# Altium footprint library Connector_PinSocket_1.27mm.PcbLib: 246 footprints (part 1 of 16)
Each footprint in its own frame and in the unit in brackets; x right, y up, seen from the top. Pads: shape width x height; smd on the part's side, far side on the other; paste and mask are expansions set on the pad; w line width, h text height; cw(c..) or ccw(c..) is an arc to the next point about the centre after c.
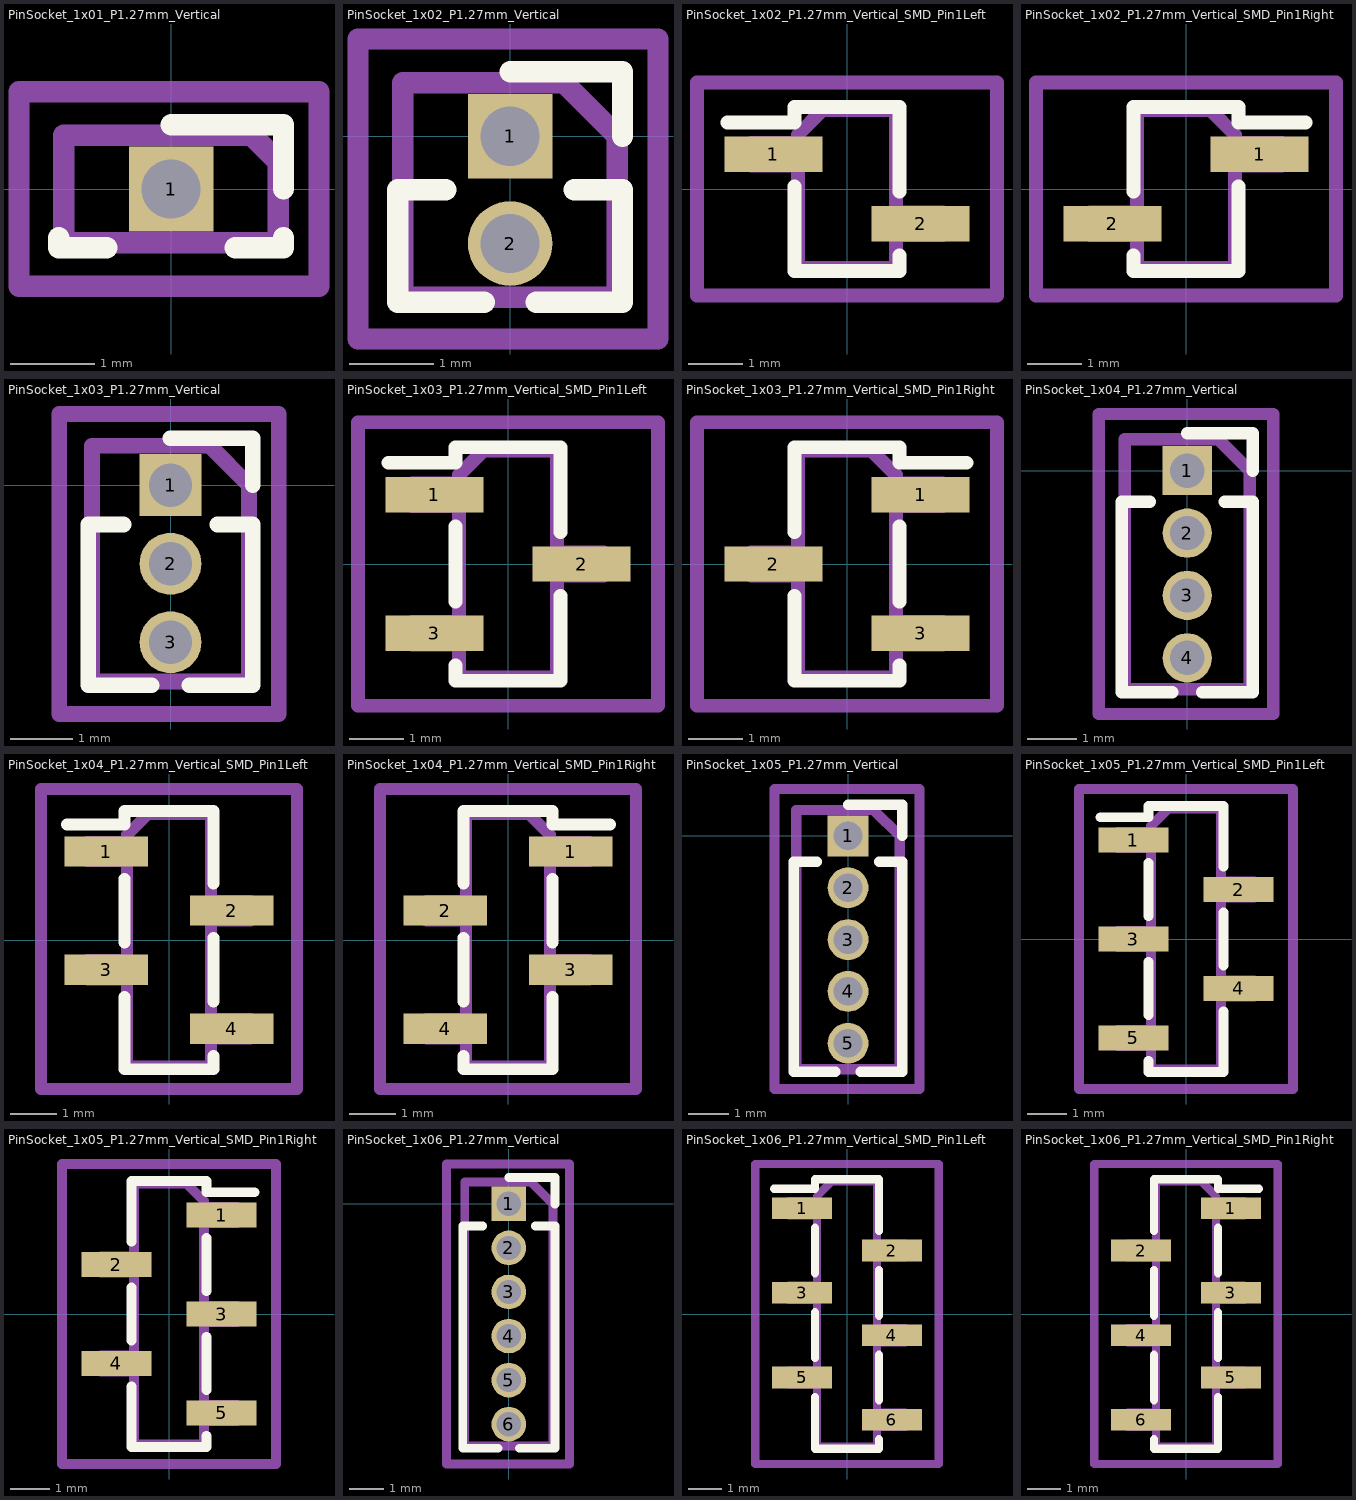
[diagram p0: the footprints below, top view; thin cyan lines are the x and y axes]

## PinSocket_1x01_P1.27mm_Vertical [mm]
pads (1):
  rect 1x1 hole 0.7: 1(0,0)
F.SilkS:
  lines w0.254: -1.33,-0.575 -1.33,-0.695 -0.76,-0.695 ; 0,0.76 1.33,0.76 1.33,0 ; 0.76,-0.695 1.33,-0.695 1.33,-0.575
Top Assembly:
  lines w0.254: -1.27,-0.635 -1.27,0.635 0.953,0.635 1.27,0.318 1.27,-0.635 -1.27,-0.635
  text "'.Designator'" at -3.072,-0.635 h0.76
Top Courtyard:
  lines w0.254: -1.8,-1.15 -1.8,1.15 1.75,1.15 1.75,-1.15 -1.8,-1.15
Top Designator:
  text ".Designator" at -7.728,-0.508 h1.52

## PinSocket_1x02_P1.27mm_Vertical [mm]
pads (2):
  rect 1x1 hole 0.7: 1(0,0)
  round 1 hole 0.7: 2(0,-1.27)
F.SilkS:
  lines w0.254: -0.76,-0.635 -1.33,-0.635 -1.33,-1.965 -0.308,-1.965 ; 0,0.76 1.33,0.76 1.33,0 ; 0.308,-1.965 1.33,-1.965 1.33,-0.635 0.76,-0.635
Top Assembly:
  lines w0.254: -1.27,-1.905 1.27,-1.905 1.27,0 0.635,0.635 -1.27,0.635 -1.27,-1.905
  text "'.Designator'" at 0.84,-4.682 h1
Top Courtyard:
  lines w0.254: -1.8,-2.4 1.75,-2.4 1.75,1.15 -1.8,1.15 -1.8,-2.4
Top Designator:
  text ".Designator" at -7.643,-1.293 h1.52

## PinSocket_1x02_P1.27mm_Vertical_SMD_Pin1Left [mm]
pads (2):
  rect 1.8x0.65 smd: 1(-1.35,0.635) 2(1.35,-0.635)
F.SilkS:
  lines w0.254: -2.19,1.22 -0.96,1.22 -0.96,1.505 0.96,1.505 0.96,-0.05 ; -0.96,0.05 -0.96,-1.505 0.96,-1.505 0.96,-1.22
Top Assembly:
  lines w0.254: -0.9,0.425 -1.75,0.425 -1.75,0.845 -0.9,0.845 ; 0.9,-0.845 1.75,-0.845 1.75,-0.425 0.9,-0.425 ; -0.9,-1.445 0.9,-1.445 0.9,1.445 -0.45,1.445 -0.9,0.995 -0.9,-1.445
  text "'.Designator'" at 0.84,-4.047 h1
Top Courtyard:
  lines w0.254: -2.75,-1.95 2.75,-1.95 2.75,1.95 -2.75,1.95 -2.75,-1.95
Top Designator:
  text ".Designator" at -7.618,-0.658 h1.52

## PinSocket_1x02_P1.27mm_Vertical_SMD_Pin1Right [mm]
pads (2):
  rect 1.8x0.65 smd: 1(1.35,0.635) 2(-1.35,-0.635)
F.SilkS:
  lines w0.254: -0.96,-1.22 -0.96,-1.505 0.96,-1.505 0.96,0.05 ; -0.96,-0.05 -0.96,1.505 0.96,1.505 0.96,1.22 2.19,1.22
Top Assembly:
  lines w0.254: -0.9,-0.845 -1.75,-0.845 -1.75,-0.425 -0.9,-0.425 ; 0.9,0.425 1.75,0.425 1.75,0.845 0.9,0.845 ; -0.9,-1.445 0.9,-1.445 0.9,0.995 0.45,1.445 -0.9,1.445 -0.9,-1.445
  text "'.Designator'" at 0.84,-4.047 h1
Top Courtyard:
  lines w0.254: -2.75,-1.95 2.75,-1.95 2.75,1.95 -2.75,1.95 -2.75,-1.95
Top Designator:
  text ".Designator" at -7.618,-0.658 h1.52

## PinSocket_1x03_P1.27mm_Vertical [mm]
pads (3):
  rect 1x1 hole 0.7: 1(0,0)
  round 1 hole 0.7: 2(0,-1.27) 3(0,-2.54)
F.SilkS:
  lines w0.254: -0.76,-0.635 -1.33,-0.635 -1.33,-3.235 -0.308,-3.235 ; 0,0.76 1.33,0.76 1.33,0 ; 0.308,-3.235 1.33,-3.235 1.33,-0.635 0.76,-0.635
Top Assembly:
  lines w0.254: -1.27,-3.175 1.27,-3.175 1.27,0 0.635,0.635 -1.27,0.635 -1.27,-3.175
  text "'.Designator'" at 0.84,-5.317 h1
Top Courtyard:
  lines w0.254: -1.8,-3.7 1.75,-3.7 1.75,1.15 -1.8,1.15 -1.8,-3.7
Top Designator:
  text ".Designator" at -7.643,-1.928 h1.52

## PinSocket_1x03_P1.27mm_Vertical_SMD_Pin1Left [mm]
pads (3):
  rect 1.8x0.65 smd: 1(-1.35,1.27) 2(1.35,0) 3(-1.35,-1.27)
F.SilkS:
  lines w0.254: -2.19,1.855 -0.96,1.855 -0.96,2.14 0.96,2.14 0.96,0.585 ; -0.96,-1.855 -0.96,-2.14 0.96,-2.14 0.96,-0.585 ; -0.96,-0.685 -0.96,0.685
Top Assembly:
  lines w0.254: -0.9,-1.48 -1.75,-1.48 -1.75,-1.06 -0.9,-1.06 ; -0.9,1.06 -1.75,1.06 -1.75,1.48 -0.9,1.48 ; 0.9,-0.21 1.75,-0.21 1.75,0.21 0.9,0.21 ; -0.9,-2.08 0.9,-2.08 0.9,2.08 -0.45,2.08 -0.9,1.63 -0.9,-2.08
  text "'.Designator'" at 0.84,-4.047 h1
Top Courtyard:
  lines w0.254: -2.75,-2.6 2.75,-2.6 2.75,2.6 -2.75,2.6 -2.75,-2.6
Top Designator:
  text ".Designator" at -7.618,-0.658 h1.52

## PinSocket_1x03_P1.27mm_Vertical_SMD_Pin1Right [mm]
pads (3):
  rect 1.8x0.65 smd: 1(1.35,1.27) 2(-1.35,0) 3(1.35,-1.27)
F.SilkS:
  lines w0.254: -0.96,-0.585 -0.96,-2.14 0.96,-2.14 0.96,-1.855 ; -0.96,0.585 -0.96,2.14 0.96,2.14 0.96,1.855 2.19,1.855 ; 0.96,-0.685 0.96,0.685
Top Assembly:
  lines w0.254: -0.9,-0.21 -1.75,-0.21 -1.75,0.21 -0.9,0.21 ; 0.9,-1.48 1.75,-1.48 1.75,-1.06 0.9,-1.06 ; 0.9,1.06 1.75,1.06 1.75,1.48 0.9,1.48 ; -0.9,-2.08 0.9,-2.08 0.9,1.63 0.45,2.08 -0.9,2.08 -0.9,-2.08
  text "'.Designator'" at 0.84,-4.047 h1
Top Courtyard:
  lines w0.254: -2.75,-2.6 2.75,-2.6 2.75,2.6 -2.75,2.6 -2.75,-2.6
Top Designator:
  text ".Designator" at -7.618,-0.658 h1.52

## PinSocket_1x04_P1.27mm_Vertical [mm]
pads (4):
  rect 1x1 hole 0.7: 1(0,0)
  round 1 hole 0.7: 2(0,-1.27) 3(0,-2.54) 4(0,-3.81)
F.SilkS:
  lines w0.254: -0.76,-0.635 -1.33,-0.635 -1.33,-4.505 -0.308,-4.505 ; 0,0.76 1.33,0.76 1.33,0 ; 0.308,-4.505 1.33,-4.505 1.33,-0.635 0.76,-0.635
Top Assembly:
  lines w0.254: -1.27,-4.445 1.27,-4.445 1.27,0 0.635,0.635 -1.27,0.635 -1.27,-4.445
  text "'.Designator'" at 0.84,-5.952 h1
Top Courtyard:
  lines w0.254: -1.8,-4.95 1.75,-4.95 1.75,1.15 -1.8,1.15 -1.8,-4.95
Top Designator:
  text ".Designator" at -7.643,-2.563 h1.52

## PinSocket_1x04_P1.27mm_Vertical_SMD_Pin1Left [mm]
pads (4):
  rect 1.8x0.65 smd: 1(-1.35,1.905) 2(1.35,0.635) 3(-1.35,-0.635) 4(1.35,-1.905)
F.SilkS:
  lines w0.254: -2.19,2.49 -0.96,2.49 -0.96,2.775 0.96,2.775 0.96,1.22 ; -0.96,-1.22 -0.96,-2.775 0.96,-2.775 0.96,-2.49 ; -0.96,-0.05 -0.96,1.32 ; 0.96,-1.32 0.96,0.05
Top Assembly:
  lines w0.254: -0.9,-0.845 -1.75,-0.845 -1.75,-0.425 -0.9,-0.425 ; -0.9,1.695 -1.75,1.695 -1.75,2.115 -0.9,2.115 ; 0.9,-2.115 1.75,-2.115 1.75,-1.695 0.9,-1.695 ; 0.9,0.425 1.75,0.425 1.75,0.845 0.9,0.845 ; -0.9,-2.715 0.9,-2.715 0.9,2.715 -0.45,2.715 -0.9,2.265 -0.9,-2.715
  text "'.Designator'" at 0.84,-4.047 h1
Top Courtyard:
  lines w0.254: -2.75,-3.2 2.75,-3.2 2.75,3.25 -2.75,3.25 -2.75,-3.2
Top Designator:
  text ".Designator" at -7.618,-0.658 h1.52

## PinSocket_1x04_P1.27mm_Vertical_SMD_Pin1Right [mm]
pads (4):
  rect 1.8x0.65 smd: 1(1.35,1.905) 2(-1.35,0.635) 3(1.35,-0.635) 4(-1.35,-1.905)
F.SilkS:
  lines w0.254: -0.96,-2.49 -0.96,-2.775 0.96,-2.775 0.96,-1.22 ; -0.96,-1.32 -0.96,0.05 ; -0.96,1.22 -0.96,2.775 0.96,2.775 0.96,2.49 2.19,2.49 ; 0.96,-0.05 0.96,1.32
Top Assembly:
  lines w0.254: -0.9,-2.115 -1.75,-2.115 -1.75,-1.695 -0.9,-1.695 ; -0.9,0.425 -1.75,0.425 -1.75,0.845 -0.9,0.845 ; 0.9,-0.845 1.75,-0.845 1.75,-0.425 0.9,-0.425 ; 0.9,1.695 1.75,1.695 1.75,2.115 0.9,2.115 ; -0.9,-2.715 0.9,-2.715 0.9,2.265 0.45,2.715 -0.9,2.715 -0.9,-2.715
  text "'.Designator'" at 0.84,-4.047 h1
Top Courtyard:
  lines w0.254: -2.75,-3.2 2.75,-3.2 2.75,3.25 -2.75,3.25 -2.75,-3.2
Top Designator:
  text ".Designator" at -7.618,-0.658 h1.52

## PinSocket_1x05_P1.27mm_Vertical [mm]
pads (5):
  rect 1x1 hole 0.7: 1(0,0)
  round 1 hole 0.7: 2(0,-1.27) 3(0,-2.54) 4(0,-3.81) 5(0,-5.08)
F.SilkS:
  lines w0.254: -0.76,-0.635 -1.33,-0.635 -1.33,-5.775 -0.308,-5.775 ; 0,0.76 1.33,0.76 1.33,0 ; 0.308,-5.775 1.33,-5.775 1.33,-0.635 0.76,-0.635
Top Assembly:
  lines w0.254: -1.27,-5.715 1.27,-5.715 1.27,0 0.635,0.635 -1.27,0.635 -1.27,-5.715
  text "'.Designator'" at 0.84,-6.587 h1
Top Courtyard:
  lines w0.254: -1.8,-6.2 1.75,-6.2 1.75,1.15 -1.8,1.15 -1.8,-6.2
Top Designator:
  text ".Designator" at -7.643,-3.198 h1.52

## PinSocket_1x05_P1.27mm_Vertical_SMD_Pin1Left [mm]
pads (5):
  rect 1.8x0.65 smd: 1(-1.35,2.54) 2(1.35,1.27) 3(-1.35,0) 4(1.35,-1.27) 5(-1.35,-2.54)
F.SilkS:
  lines w0.254: -2.19,3.125 -0.96,3.125 -0.96,3.41 0.96,3.41 0.96,1.855 ; -0.96,-3.125 -0.96,-3.41 0.96,-3.41 0.96,-1.855 ; -0.96,-1.955 -0.96,-0.585 ; -0.96,0.585 -0.96,1.955 ; 0.96,-0.685 0.96,0.685
Top Assembly:
  lines w0.254: -0.9,-2.75 -1.75,-2.75 -1.75,-2.33 -0.9,-2.33 ; -0.9,-0.21 -1.75,-0.21 -1.75,0.21 -0.9,0.21 ; -0.9,2.33 -1.75,2.33 -1.75,2.75 -0.9,2.75 ; 0.9,-1.48 1.75,-1.48 1.75,-1.06 0.9,-1.06 ; 0.9,1.06 1.75,1.06 1.75,1.48 0.9,1.48 ; -0.9,-3.35 0.9,-3.35 0.9,3.35 -0.45,3.35 -0.9,2.9 -0.9,-3.35
  text "'.Designator'" at 0.84,-4.047 h1
Top Courtyard:
  lines w0.254: -2.75,-3.85 2.75,-3.85 2.75,3.85 -2.75,3.85 -2.75,-3.85
Top Designator:
  text ".Designator" at -7.618,-0.618 h1.52

## PinSocket_1x05_P1.27mm_Vertical_SMD_Pin1Right [mm]
pads (5):
  rect 1.8x0.65 smd: 1(1.35,2.54) 2(-1.35,1.27) 3(1.35,0) 4(-1.35,-1.27) 5(1.35,-2.54)
F.SilkS:
  lines w0.254: -0.96,-1.855 -0.96,-3.41 0.96,-3.41 0.96,-3.125 ; -0.96,-0.685 -0.96,0.685 ; -0.96,1.855 -0.96,3.41 0.96,3.41 0.96,3.125 2.19,3.125 ; 0.96,-1.955 0.96,-0.585 ; 0.96,0.585 0.96,1.955
Top Assembly:
  lines w0.254: -0.9,-1.48 -1.75,-1.48 -1.75,-1.06 -0.9,-1.06 ; -0.9,1.06 -1.75,1.06 -1.75,1.48 -0.9,1.48 ; 0.9,-2.75 1.75,-2.75 1.75,-2.33 0.9,-2.33 ; 0.9,-0.21 1.75,-0.21 1.75,0.21 0.9,0.21 ; 0.9,2.33 1.75,2.33 1.75,2.75 0.9,2.75 ; -0.9,-3.35 0.9,-3.35 0.9,2.9 0.45,3.35 -0.9,3.35 -0.9,-3.35
  text "'.Designator'" at 0.84,-4.047 h1
Top Courtyard:
  lines w0.254: -2.75,-3.85 2.75,-3.85 2.75,3.85 -2.75,3.85 -2.75,-3.85
Top Designator:
  text ".Designator" at -7.618,-0.618 h1.52

## PinSocket_1x06_P1.27mm_Vertical [mm]
pads (6):
  rect 1x1 hole 0.7: 1(0,0)
  round 1 hole 0.7: 2(0,-1.27) 3(0,-2.54) 4(0,-3.81) 5(0,-5.08) 6(0,-6.35)
F.SilkS:
  lines w0.254: -0.76,-0.635 -1.33,-0.635 -1.33,-7.045 -0.308,-7.045 ; 0,0.76 1.33,0.76 1.33,0 ; 0.308,-7.045 1.33,-7.045 1.33,-0.635 0.76,-0.635
Top Assembly:
  lines w0.254: -1.27,-6.985 1.27,-6.985 1.27,0 0.635,0.635 -1.27,0.635 -1.27,-6.985
  text "'.Designator'" at 0.84,-7.222 h1
Top Courtyard:
  lines w0.254: -1.8,-7.5 1.75,-7.5 1.75,1.15 -1.8,1.15 -1.8,-7.5
Top Designator:
  text ".Designator" at -7.643,-3.683 h1.52

## PinSocket_1x06_P1.27mm_Vertical_SMD_Pin1Left [mm]
pads (6):
  rect 1.8x0.65 smd: 1(-1.35,3.175) 2(1.35,1.905) 3(-1.35,0.635) 4(1.35,-0.635) 5(-1.35,-1.905) 6(1.35,-3.175)
F.SilkS:
  lines w0.254: -2.19,3.76 -0.96,3.76 -0.96,4.045 0.96,4.045 0.96,2.49 ; -0.96,-2.49 -0.96,-4.045 0.96,-4.045 0.96,-3.76 ; -0.96,-1.32 -0.96,0.05 ; -0.96,1.22 -0.96,2.59 ; 0.96,-2.59 0.96,-1.22 ; 0.96,-0.05 0.96,1.32
Top Assembly:
  lines w0.254: -0.9,-2.115 -1.75,-2.115 -1.75,-1.695 -0.9,-1.695 ; -0.9,0.425 -1.75,0.425 -1.75,0.845 -0.9,0.845 ; -0.9,2.965 -1.75,2.965 -1.75,3.385 -0.9,3.385 ; 0.9,-3.385 1.75,-3.385 1.75,-2.965 0.9,-2.965 ; 0.9,-0.845 1.75,-0.845 1.75,-0.425 0.9,-0.425 ; 0.9,1.695 1.75,1.695 1.75,2.115 0.9,2.115 ; -0.9,-3.985 0.9,-3.985 0.9,3.985 -0.45,3.985 -0.9,3.535 -0.9,-3.985
  text "'.Designator'" at 0.84,-4.047 h1
Top Courtyard:
  lines w0.254: -2.75,-4.5 2.75,-4.5 2.75,4.5 -2.75,4.5 -2.75,-4.5
Top Designator:
  text ".Designator" at -7.618,-0.508 h1.52

## PinSocket_1x06_P1.27mm_Vertical_SMD_Pin1Right [mm]
pads (6):
  rect 1.8x0.65 smd: 1(1.35,3.175) 2(-1.35,1.905) 3(1.35,0.635) 4(-1.35,-0.635) 5(1.35,-1.905) 6(-1.35,-3.175)
F.SilkS:
  lines w0.254: -0.96,-3.76 -0.96,-4.045 0.96,-4.045 0.96,-2.49 ; -0.96,-2.59 -0.96,-1.22 ; -0.96,-0.05 -0.96,1.32 ; -0.96,2.49 -0.96,4.045 0.96,4.045 0.96,3.76 2.19,3.76 ; 0.96,-1.32 0.96,0.05 ; 0.96,1.22 0.96,2.59
Top Assembly:
  lines w0.254: -0.9,-3.385 -1.75,-3.385 -1.75,-2.965 -0.9,-2.965 ; -0.9,-0.845 -1.75,-0.845 -1.75,-0.425 -0.9,-0.425 ; -0.9,1.695 -1.75,1.695 -1.75,2.115 -0.9,2.115 ; 0.9,-2.115 1.75,-2.115 1.75,-1.695 0.9,-1.695 ; 0.9,0.425 1.75,0.425 1.75,0.845 0.9,0.845 ; 0.9,2.965 1.75,2.965 1.75,3.385 0.9,3.385 ; -0.9,-3.985 0.9,-3.985 0.9,3.535 0.45,3.985 -0.9,3.985 -0.9,-3.985
  text "'.Designator'" at 0.84,-4.047 h1
Top Courtyard:
  lines w0.254: -2.75,-4.5 2.75,-4.5 2.75,4.5 -2.75,4.5 -2.75,-4.5
Top Designator:
  text ".Designator" at -7.618,-0.508 h1.52